# EAGLE library part MCP4726-DFN (library MCP4726)
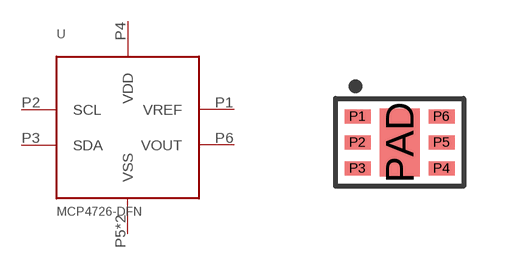
[diagram p1: symbol with the pads of DFN-6; footprint DFN-6]

Designator prefix -

## MCP4726-DFN  [DFN-6]
P1  VREF
P2  SCL
P3  SDA
P4  VDD
P5  VSS
P6  VOUT
PAD  VSS

## Footprint DFN-6 (pad centres in mm)
smd 0.65 x 0.35: P1 -1.05,0.65; P2 -1.05,0; P3 -1.05,-0.65; P4 1.05,-0.65; P5 1.05,0; P6 1.05,0.65
smd 1 x 1.7: PAD 0,0